# Altium schematic symbol library USER_Lib.SchLib: 110 symbols
Pins are listed as number, name and electrical type; pins without a type are passive.

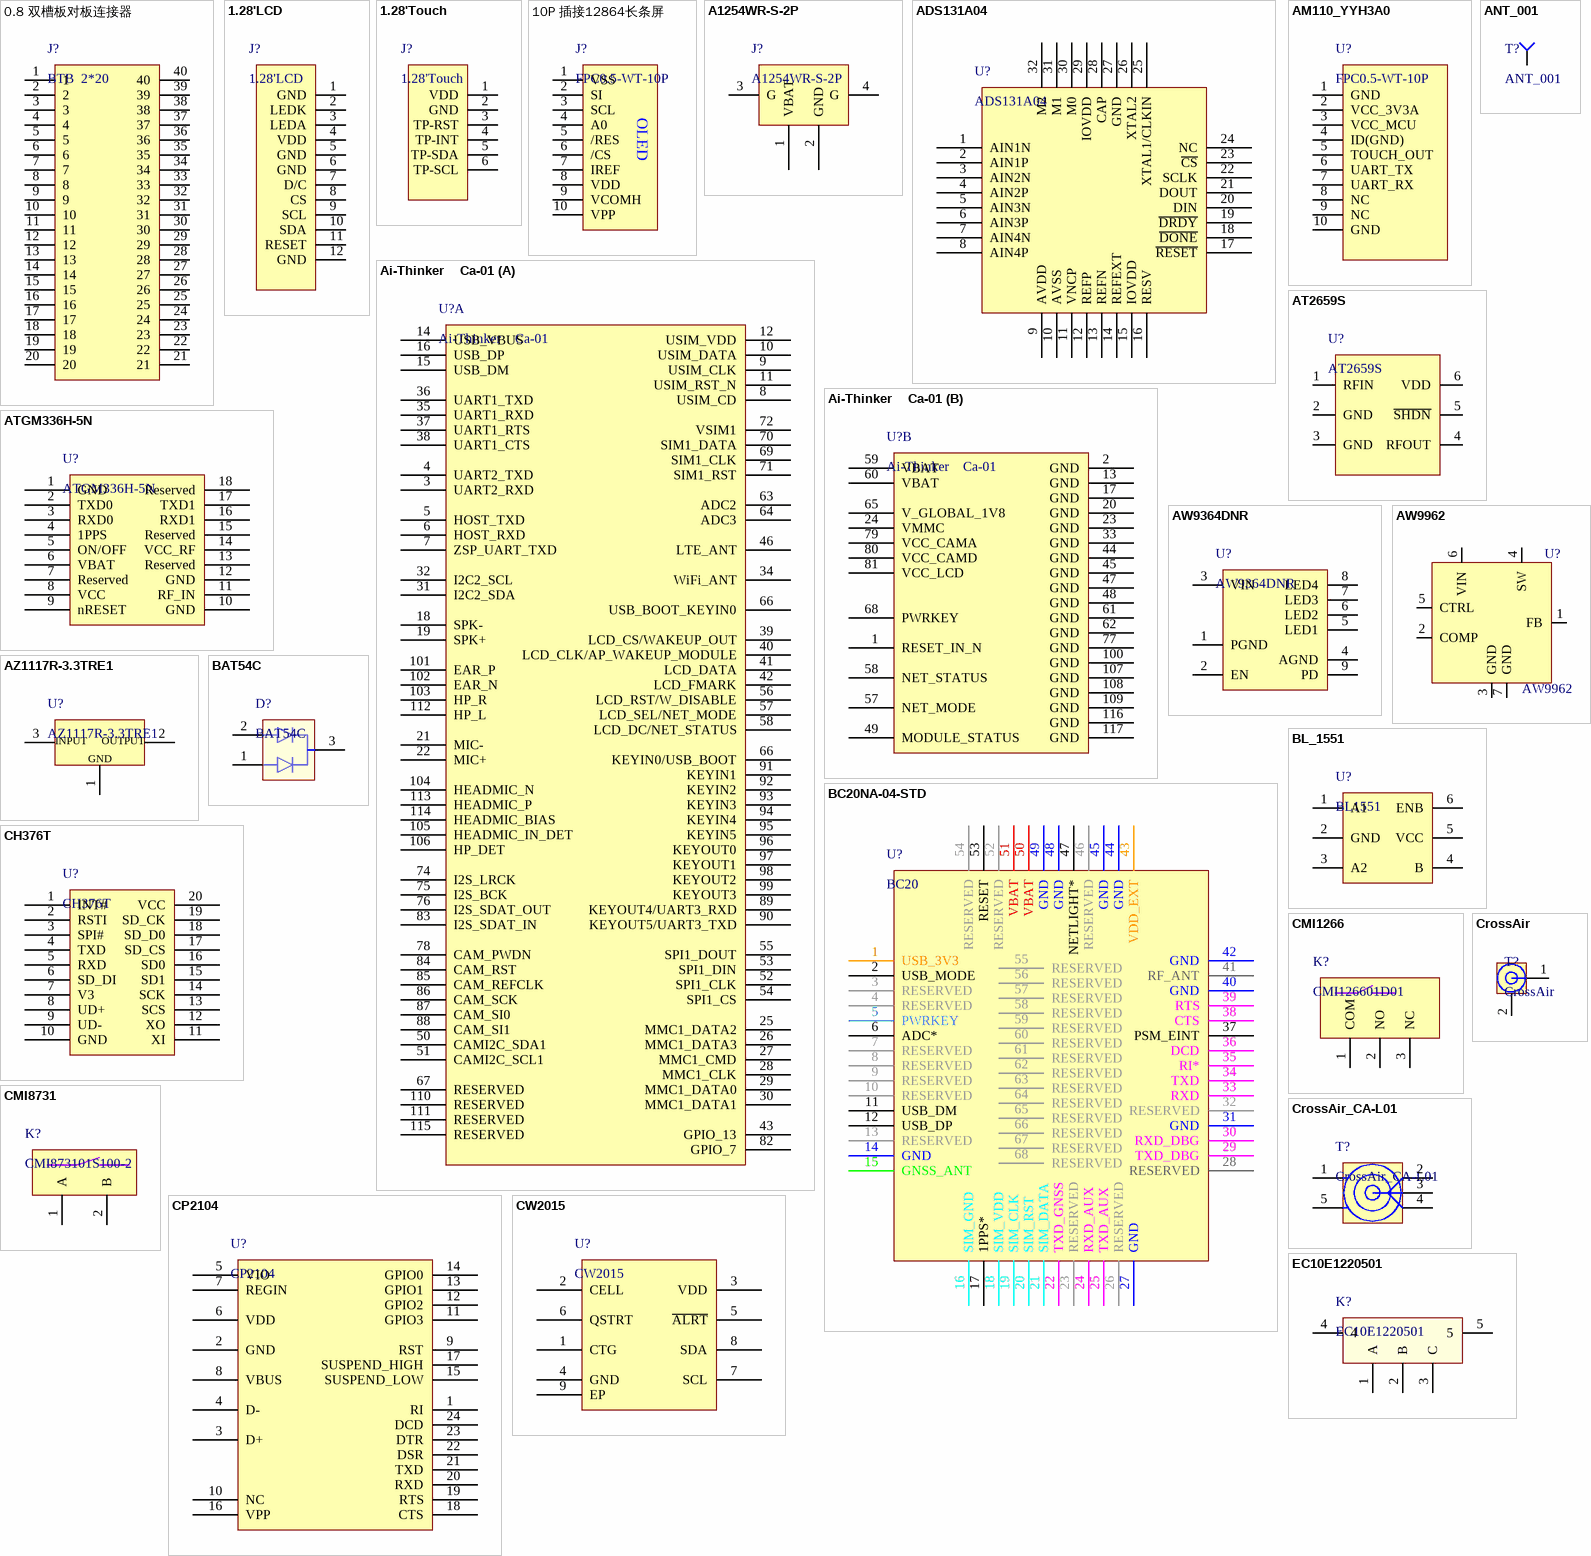
[diagram p0: symbols 0.8 双槽板对板连接器 to EC10E1220501]

## 0.8 双槽板对板连接器
designator J?, comment BTB  2*20
footprint SGDBF-08-40P-Hxx
footprint SGDBM-08-40P-Hxx
pins: 1, 2, 3, 4, 5, 6, 7, 8, 9, 10, 11, 12, 13, 14, 15, 16, 17, 18, 19, 20, 21, 22, 23, 24, 25, 26, 27, 28, 29, 30, 31, 32, 33, 34, 35, 36, 37, 38, 39, 40

## 1.28'LCD
designator J?
1.28寸焊接LCD屏（240*240）
footprint 1.28‘LCD
pins: 1 GND, 2 LEDK, 3 LEDA, 4 VDD, 5 GND, 6 GND, 7 D/C, 8 CS, 9 SCL, 10 SDA, 11 RESET, 12 GND

## 1.28'Touch
designator J?
1.28寸触摸面板
footprint 1.28’Touch
pins: 1 VDD, 2 GND, 3 TP-RST, 4 TP-INT, 5 TP-SDA, 6 TP-SCL

## 10P 插接12864长条屏
designator J?, comment FPC0.5-WT-10P
OLED屏幕
footprint FPC0.5-WT-10P (长：9.2mm，宽：5.2mm，高：2mm 淘宝ID:黄晶宝石   店铺网址:https://shop463601444.taobao.com)
pins: 1 VSS, 2 SI, 3 SCL, 4 A0, 5 /RES, 6 /CS, 7 IREF, 8 VDD, 9 VCOMH, 10 VPP
text: OLED

## A1254WR-S-2P
designator J?
长江连接器-卧式-2P
footprint A1254WR-S-2P (长江连接器-卧式)
pins: 1 VBAT, 2 GND, 3 G, 4 G

## ADS131A04
designator U?
24位ADC
footprint TQFP32 5x5_L (32脚，体宽：5x5mm, 脚距：0.5mm          淘宝ID:黄晶宝石)
footprint TQFP32 5x5_N (32脚，体宽：5x5mm, 脚距：0.5mm)
footprint TQFP32 5x5_M (32脚，体宽：5x5mm, 脚距：0.5mm             淘宝ID:黄晶宝石)
pins: 1 AIN1N, 2 AIN1P, 3 AIN2N, 4 AIN2P, 5 AIN3N, 6 AIN3P, 7 AIN4N, 8 AIN4P, 9 AVDD, 10 AVSS, 11 VNCP, 12 REFP, 13 REFN, 14 REFEXT, 15 IOVDD, 16 RESV, 17 ~{RESET}, 18 ~{DONE}, 19 ~{DRDY}, 20 DIN, 21 DOUT, 22 SCLK, 23 ~{CS}, 24 NC, 25 XTAL1/CLKIN, 26 XTAL2, 27 GND, 28 CAP, 29 IOVDD, 30 M0, 31 M1, 32 M2

## Ai-Thinker    Ca-01
designator U?
安信可 Ca-01
footprint Ai-Thinker    Ca-01 (安信可4G物联网模块)
part A pins: 3 UART2_RXD, 4 UART2_TXD, 5 HOST_TXD, 6 HOST_RXD, 7 ZSP_UART_TXD, 8 USIM_CD, 9 USIM_CLK, 10 USIM_DATA, 11 USIM_RST_N, 12 USIM_VDD, 14 USB_VBUS, 15 USB_DM, 16 USB_DP, 18 SPK-, 19 SPK+, 21 MIC-, 22 MIC+, 25 MMC1_DATA2, 26 MMC1_DATA3, 27 MMC1_CMD, 28 MMC1_CLK, 29 MMC1_DATA0, 30 MMC1_DATA1, 31 I2C2_SDA, 32 I2C2_SCL, 34 WiFi_ANT, 35 UART1_RXD, 36 UART1_TXD, 37 UART1_RTS, 38 UART1_CTS, 39 LCD_CS/WAKEUP_OUT, 40 LCD_CLK/AP_WAKEUP_MODULE, 41 LCD_DATA, 42 LCD_FMARK, 43 GPIO_13, 46 LTE_ANT, 50 CAMI2C_SDA1, 51 CAMI2C_SCL1, 52 SPI1_CLK, 53 SPI1_DIN, 54 SPI1_CS, 55 SPI1_DOUT, 56 LCD_RST/W_DISABLE, 57 LCD_SEL/NET_MODE, 58 LCD_DC/NET_STATUS, 63 ADC2, 64 ADC3, 66 USB_BOOT_KEYIN0, 66 KEYIN0/USB_BOOT, 67 RESERVED, 69 SIM1_CLK, 70 SIM1_DATA, 71 SIM1_RST, 72 VSIM1, 74 I2S_LRCK, 75 I2S_BCK, 76 I2S_SDAT_OUT, 78 CAM_PWDN, 82 GPIO_7, 83 I2S_SDAT_IN, 84 CAM_RST, 85 CAM_REFCLK, 86 CAM_SCK, 87 CAM_SI0, 88 CAM_SI1, 89 KEYOUT4/UART3_RXD, 90 KEYOUT5/UART3_TXD, 91 KEYIN1, 92 KEYIN2, 93 KEYIN3, 94 KEYIN4, 95 KEYIN5, 96 KEYOUT0, 97 KEYOUT1, 98 KEYOUT2, 99 KEYOUT3, 101 EAR_P, 102 EAR_N, 103 HP_R, 104 HEADMIC_N, 105 HEADMIC_IN_DET, 106 HP_DET, 110 RESERVED, 111 RESERVED, 112 HP_L, 113 HEADMIC_P, 114 HEADMIC_BIAS, 115 RESERVED
part B pins: 1 RESET_IN_N, 2 GND, 13 GND, 17 GND, 20 GND, 23 GND, 24 VMMC, 33 GND, 44 GND, 45 GND, 47 GND, 48 GND, 49 MODULE_STATUS, 57 NET_MODE, 58 NET_STATUS, 59 VBAT, 60 VBAT, 61 GND, 62 GND, 65 V_GLOBAL_1V8, 68 PWRKEY, 77 GND, 79 VCC_CAMA, 80 VCC_CAMD, 81 VCC_LCD, 100 GND, 107 GND, 108 GND, 109 GND, 116 GND, 117 GND

## AM110_YYH3A0
designator U?, comment FPC0.5-WT-10P
晟元AM110_YYH3A0指纹模组
footprint FPC0.5-WT-10P (长：9.2mm，宽：5.2mm，高：2mm 淘宝ID:黄晶宝石   店铺网址:https://shop463601444.taobao.com)
pins: 1 GND, 2 VCC_3V3A, 3 VCC_MCU, 4 ID(GND), 5 TOUCH_OUT, 6 UART_TX, 7 UART_RX, 8 NC, 9 NC, 10 GND

## ANT_001
designator T?
天线焊接点
footprint ANT_001
pins: 1

## AT2659S
designator U?
footprint SOT23-6L (3x1.6x1.1mm(长宽高))
pins: 1 RFIN, 2 GND, 3 GND, 4 RFOUT, 5 ~{SHDN}, 6 VDD

## ATGM336H-5N
designator U?
中科微GPS模组
footprint ATGM336H-5N (GPS模块)
pins: 1 GND, 2 TXD0, 3 RXD0, 4 1PPS, 5 ON/OFF, 6 VBAT, 7 Reserved, 8 VCC, 9 nRESET, 10 GND, 11 RF_IN, 12 GND, 13 Reserved, 14 VCC_RF, 15 Reserved, 16 RXD1, 17 TXD1, 18 Reserved

## AW9364DNR
designator U?
并联调光背光驱动
footprint DFN2X2-8L
pins: 1 PGND, 2 EN, 3 VIN, 4 AGND, 5 LED1, 6 LED2, 7 LED3, 8 LED4, 9 PD

## AW9962
designator U?
调光的串联 WLED  驱动
footprint TDFN2x2-6_L
pins: 1 FB, 2 COMP, 3 GND, 4 SW, 5 CTRL, 6 VIN, 7 GND

## AZ1117R-3.3TRE1
designator U?
1A线性稳压器
footprint SOT-89
pins: 1 GND, 2 OUTPUT, 3 INPUT

## BAT54C
designator D?
共阴肖特基二极管
footprint SOT23-3L (SOT23, 3-Leads, Body 2.9x1.3mm, Pitch 0.95mm, Lead Span 2.4mm, IPC High Density)
pins: 1, 2, 3

## BC20NA-04-STD
designator U?, comment BC20
BC20NA-04-STD模组
footprint BC20
pins: 1 USB_3V3, 2 USB_MODE, 3 RESERVED, 4 RESERVED, 5 PWRKEY, 6 ADC*, 7 RESERVED, 8 RESERVED, 9 RESERVED, 10 RESERVED, 11 USB_DM, 12 USB_DP, 13 RESERVED, 14 GND, 15 GNSS_ANT, 16 SIM_GND, 17 1PPS*, 18 SIM_VDD, 19 SIM_CLK, 20 SIM_RST, 21 SIM_DATA, 22 TXD_GNSS, 23 RESERVED, 24 RXD_AUX, 25 TXD_AUX, 26 RESERVED, 27 GND, 28 RESERVED, 29 TXD_DBG, 30 RXD_DBG, 31 GND, 32 RESERVED, 33 RXD, 34 TXD, 35 RI*, 36 DCD, 37 PSM_EINT, 38 CTS, 39 RTS, 40 GND, 41 RF_ANT, 42 GND, 43 VDD_EXT, 44 GND, 45 GND, 46 RESERVED, 47 NETLIGHT*, 48 GND, 49 GND, 50 VBAT, 51 VBAT, 52 RESERVED, 53 RESET, 54 RESERVED, 55 RESERVED, 56 RESERVED, 57 RESERVED, 58 RESERVED, 59 RESERVED, 60 RESERVED, 61 RESERVED, 62 RESERVED, 63 RESERVED, 64 RESERVED, 65 RESERVED, 66 RESERVED, 67 RESERVED, 68 RESERVED

## BL_1551
designator U?, comment BL1551
二选一模拟开关
footprint SC-70-6 (SOT-363)
pins: 1 A1, 2 GND, 3 A2, 4 B, 5 VCC, 6 ENB

## CH376T
designator U?
U 盘和 SD 卡文件管理控制芯片
footprint SSOP20_L (7.2*7.8*1.6（长宽高）)
pins: 1 INT#, 2 RSTI, 3 SPI#, 4 TXD, 5 RXD, 6 SD_DI, 7 V3, 8 UD+, 9 UD-, 10 GND, 11 XI, 12 XO, 13 SCS, 14 SCK, 15 SD1, 16 SD0, 17 SD_CS, 18 SD_D0, 19 SD_CK, 20 VCC

## CMI1266
designator K?, comment CMI126601D01
小型微动开关
footprint CMI126601D01 (Kailh小型微动开关)
pins: 1 COM, 2 NO, 3 NC

## CMI8731
designator K?, comment CMI873101S100-2
MINI微型开关
footprint CMI873101S100-2
pins: 1 A, 2 B

## CP2104
designator U?
USB转TTl
footprint QFN24 4x4_N (24脚，长x宽x高：4x4x1mm，脚距：0.5mm)
pins: 1 RI, 2 GND, 3 D+, 4 D-, 5 VIO, 6 VDD, 7 REGIN, 8 VBUS, 9 RST, 10 NC, 11 GPIO3, 12 GPIO2, 13 GPIO1, 14 GPIO0, 15 SUSPEND_LOW, 16 VPP, 17 SUSPEND_HIGH, 18 CTS, 19 RTS, 20 RXD, 21 TXD, 22 DSR, 23 DTR, 24 DCD

## CrossAir
designator T?
天线
footprint CA-C03 (2.4G  ISM  BLE  WIFI  ZigBee  贴片天线)
footprint CA-G01 (GNSS贴片天线)
pins: 1, 2

## CrossAir_CA-L01
designator T?
天线
footprint CA-L01 (4G  3G  2G  全网通天线)
pins: 1, 2, 3, 4, 5

## CW2015
designator U?
电量计
footprint CW2015
pins: 1 CTG, 2 CELL, 3 VDD, 4 GND, 5 ~{ALRT}, 6 QSTRT, 7 SCL, 8 SDA, 9 EP

## EC10E1220501
designator K?
EC10E 编码器
footprint EC10E1220501
pins: 1 A, 2 B, 3 C, 4, 5

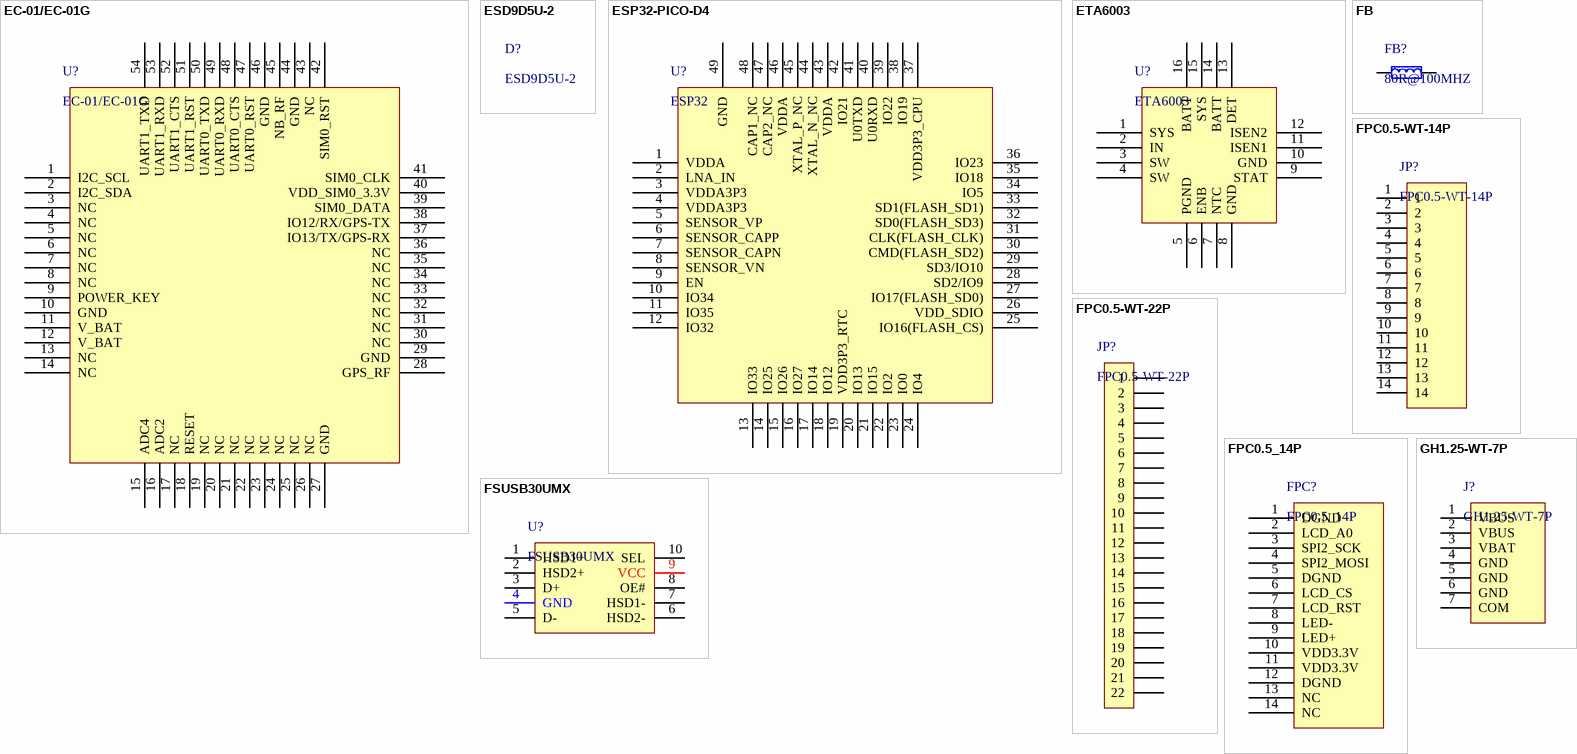
[diagram p1: symbols EC-01/EC-01G to GH1.25-WT-7P]

## EC-01/EC-01G
designator U?
安信可EC-01/EC-01G
footprint EC-01G (安信可EC-01G 模组)
pins: 1 I2C_SCL, 2 I2C_SDA, 3 NC, 4 NC, 5 NC, 6 NC, 7 NC, 8 NC, 9 POWER_KEY, 10 GND, 11 V_BAT, 12 V_BAT, 13 NC, 14 NC, 15 ADC4, 16 ADC2, 17 NC, 18 RESET, 19 NC, 20 NC, 21 NC, 22 NC, 23 NC, 24 NC, 25 NC, 26 NC, 27 GND, 28 GPS_RF, 29 GND, 30 NC, 31 NC, 32 NC, 33 NC, 34 NC, 35 NC, 36 NC, 37 IO13/TX/GPS-RX, 38 IO12/RX/GPS-TX, 39 SIM0_DATA, 40 VDD_SIM0_3.3V, 41 SIM0_CLK, 42 SIM0_RST, 43 NC, 44 GND, 45 NB_RF, 46 GND, 47 UART0_RST, 48 UART0_CTS, 49 UART0_RXD, 50 UART0_TXD, 51 UART1_RST, 52 UART1_CTS, 53 UART1_RXD, 54 UART1_TXD

## ESD9D5U-2
designator D?
TVS静电保护二极管
footprint SOD-923 (0.8x0.6X0.4mm（长宽高，不包括引脚）       淘宝ID:黄晶宝石)

## ESP32-PICO-D4
designator U?, comment ESP32
ESP32-PICO-D4
footprint QFN48 7X7_L (48脚，长x宽x高：7x7x1mm，脚距：0.5mm)
pins: 1 VDDA, 2 LNA_IN, 3 VDDA3P3, 4 VDDA3P3, 5 SENSOR_VP, 6 SENSOR_CAPP, 7 SENSOR_CAPN, 8 SENSOR_VN, 9 EN, 10 IO34, 11 IO35, 12 IO32, 13 IO33, 14 IO25, 15 IO26, 16 IO27, 17 IO14, 18 IO12, 19 VDD3P3_RTC, 20 IO13, 21 IO15, 22 IO2, 23 IO0, 24 IO4, 25 IO16(FLASH_CS), 26 VDD_SDIO, 27 IO17(FLASH_SD0), 28 SD2/IO9, 29 SD3/IO10, 30 CMD(FLASH_SD2), 31 CLK(FLASH_CLK), 32 SD0(FLASH_SD3), 33 SD1(FLASH_SD1), 34 IO5, 35 IO18, 36 IO23, 37 VDD3P3_CPU, 38 IO19, 39 IO22, 40 U0RXD, 41 U0TXD, 42 IO21, 43 VDDA, 44 XTAL_N_NC, 45 XTAL_P_NC, 46 VDDA, 47 CAP2_NC, 48 CAP1_NC, 49 GND

## ETA6003
designator U?
footprint QFN16-3x3
pins: 1 SYS, 2 IN, 3 SW, 4 SW, 5 PGND, 6 ENB, 7 NTC, 8 GND, 9 STAT, 10 GND, 11 ISEN1, 12 ISEN2, 13 DET, 14 BATT, 15 SYS, 16 BATT

## FB
designator FB?, comment 80R@100MHZ
磁珠
pins: 1, 2

## FPC0.5-WT-14P
designator JP?
0.5mm间距、14P FPC
footprint FPC0.5-WT-14P (长：11.2mm，宽：5.2mm，高：2mm)
pins: 1, 2, 3, 4, 5, 6, 7, 8, 9, 10, 11, 12, 13, 14

## FPC0.5-WT-22P
designator JP?
footprint FPC0.5-WT-22P (长：15.2mm，宽：5.2mm，高：2mm 淘宝ID:黄晶宝石   店铺网址:https://shop463601444.taobao.com)
pins: 1, 2, 3, 4, 5, 6, 7, 8, 9, 10, 11, 12, 13, 14, 15, 16, 17, 18, 19, 20, 21, 22

## FPC0.5_14P
designator FPC?
footprint FPC0.5-WT-14P (长：11.2mm，宽：5.2mm，高：2mm)
pins: 1 DGND, 2 LCD_A0, 3 SPI2_SCK, 4 SPI2_MOSI, 5 DGND, 6 LCD_CS, 7 LCD_RST, 8 LED-, 9 LED+, 10 VDD3.3V, 11 VDD3.3V, 12 DGND, 13 NC, 14 NC

## FSUSB30UMX
designator U?
安森美USB2.0切换芯片
footprint ULMP-10
pins: 1 HSD1+, 2 HSD2+, 3 D+, 4 GND, 5 D-, 6 HSD2-, 7 HSD1-, 8 OE#, 9 VCC, 10 SEL

## GH1.25-WT-7P
designator J?
带锁扣接口座
footprint A1254WF-07A
pins: 1 VBUS, 2 VBUS, 3 VBAT, 4 GND, 5 GND, 6 GND, 7 COM

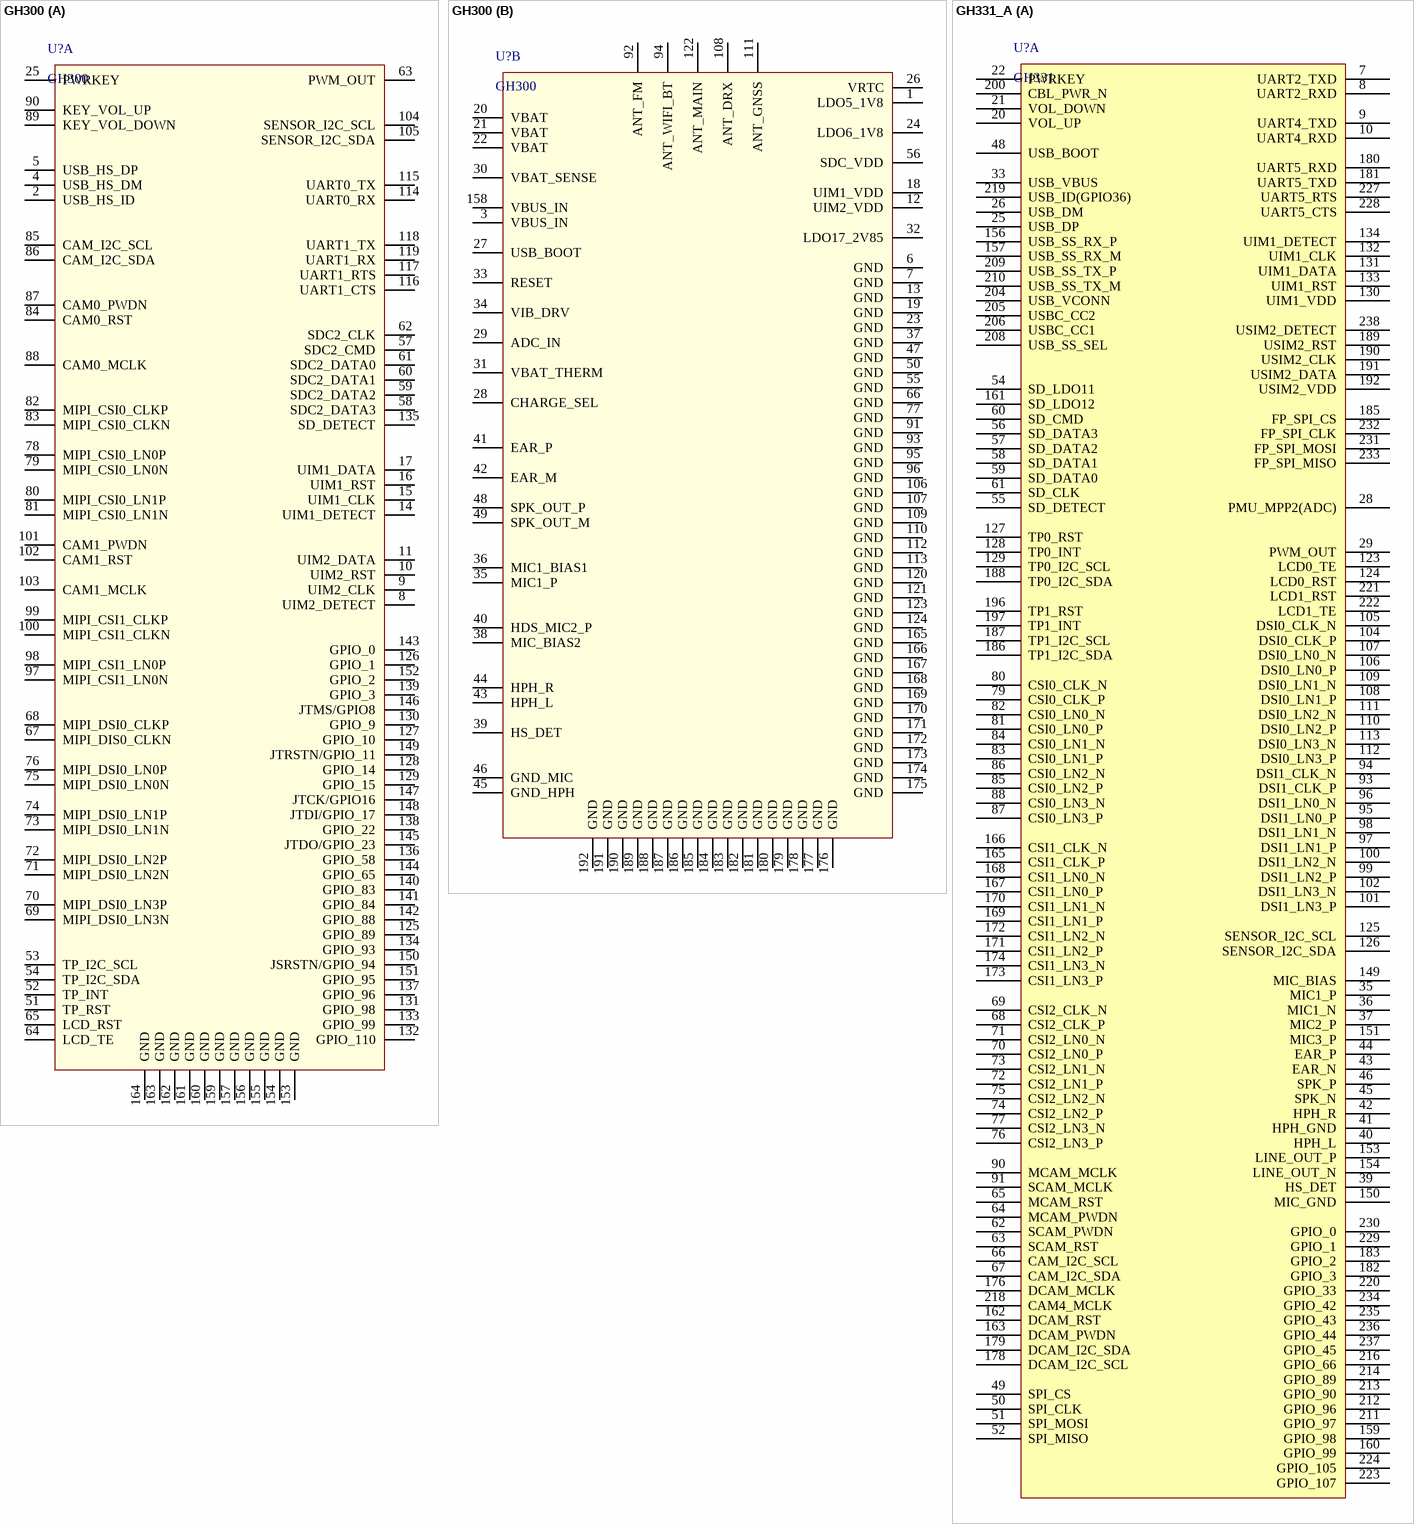
[diagram p2: symbols GH300 to GH331_A]

## GH300
designator U?
8909模组
footprint GH300
part A pins: 2 USB_HS_ID, 4 USB_HS_DM, 5 USB_HS_DP, 8 UIM2_DETECT, 9 UIM2_CLK, 10 UIM2_RST, 11 UIM2_DATA, 14 UIM1_DETECT, 15 UIM1_CLK, 16 UIM1_RST, 17 UIM1_DATA, 25 PWRKEY, 51 TP_RST, 52 TP_INT, 53 TP_I2C_SCL, 54 TP_I2C_SDA, 57 SDC2_CMD, 58 SDC2_DATA3, 59 SDC2_DATA2, 60 SDC2_DATA1, 61 SDC2_DATA0, 62 SDC2_CLK, 63 PWM_OUT, 64 LCD_TE, 65 LCD_RST, 67 MIPI_DIS0_CLKN, 68 MIPI_DSI0_CLKP, 69 MIPI_DSI0_LN3N, 70 MIPI_DSI0_LN3P, 71 MIPI_DSI0_LN2N, 72 MIPI_DSI0_LN2P, 73 MIPI_DSI0_LN1N, 74 MIPI_DSI0_LN1P, 75 MIPI_DSI0_LN0N, 76 MIPI_DSI0_LN0P, 78 MIPI_CSI0_LN0P, 79 MIPI_CSI0_LN0N, 80 MIPI_CSI0_LN1P, 81 MIPI_CSI0_LN1N, 82 MIPI_CSI0_CLKP, 83 MIPI_CSI0_CLKN, 84 CAM0_RST, 85 CAM_I2C_SCL, 86 CAM_I2C_SDA, 87 CAM0_PWDN, 88 CAM0_MCLK, 89 KEY_VOL_DOWN, 90 KEY_VOL_UP, 97 MIPI_CSI1_LN0N, 98 MIPI_CSI1_LN0P, 99 MIPI_CSI1_CLKP, 100 MIPI_CSI1_CLKN, 101 CAM1_PWDN, 102 CAM1_RST, 103 CAM1_MCLK, 104 SENSOR_I2C_SCL, 105 SENSOR_I2C_SDA, 114 UART0_RX, 115 UART0_TX, 116 UART1_CTS, 117 UART1_RTS, 118 UART1_TX, 119 UART1_RX, 125 GPIO_89, 126 GPIO_1, 127 GPIO_10, 128 GPIO_14, 129 GPIO_15, 130 GPIO_9, 131 GPIO_98, 132 GPIO_110, 133 GPIO_99, 134 GPIO_93, 135 SD_DETECT, 136 GPIO_58, 137 GPIO_96, 138 GPIO_22, 139 GPIO_3, 140 GPIO_83, 141 GPIO_84, 142 GPIO_88, 143 GPIO_0, 144 GPIO_65, 145 JTDO/GPIO_23, 146 JTMS/GPIO8, 147 JTCK/GPIO16, 148 JTDI/GPIO_17, 149 JTRSTN/GPIO_11, 150 JSRSTN/GPIO_94, 151 GPIO_95, 152 GPIO_2, 153 GND, 154 GND, 155 GND, 156 GND, 157 GND, 159 GND, 160 GND, 161 GND, 162 GND, 163 GND, 164 GND
part B pins: 1 LDO5_1V8, 3 VBUS_IN, 6 GND, 7 GND, 12 UIM2_VDD, 13 GND, 18 UIM1_VDD, 19 GND, 20 VBAT, 21 VBAT, 22 VBAT, 23 GND, 24 LDO6_1V8, 26 VRTC, 27 USB_BOOT, 28 CHARGE_SEL, 29 ADC_IN, 30 VBAT_SENSE, 31 VBAT_THERM, 32 LDO17_2V85, 33 RESET, 34 VIB_DRV, 35 MIC1_P, 36 MIC1_BIAS1, 37 GND, 38 MIC_BIAS2, 39 HS_DET, 40 HDS_MIC2_P, 41 EAR_P, 42 EAR_M, 43 HPH_L, 44 HPH_R, 45 GND_HPH, 46 GND_MIC, 47 GND, 48 SPK_OUT_P, 49 SPK_OUT_M, 50 GND, 55 GND, 56 SDC_VDD, 66 GND, 77 GND, 91 GND, 92 ANT_FM, 93 GND, 94 ANT_WIFI_BT, 95 GND, 96 GND, 106 GND, 107 GND, 108 ANT_DRX, 109 GND, 110 GND, 111 ANT_GNSS, 112 GND, 113 GND, 120 GND, 121 GND, 122 ANT_MAIN, 123 GND, 124 GND, 158 VBUS_IN, 165 GND, 166 GND, 167 GND, 168 GND, 169 GND, 170 GND, 171 GND, 172 GND, 173 GND, 174 GND, 175 GND, 176 GND, 177 GND, 178 GND, 179 GND, 180 GND, 181 GND, 182 GND, 183 GND, 184 GND, 185 GND, 186 GND, 187 GND, 188 GND, 189 GND, 190 GND, 191 GND, 192 GND

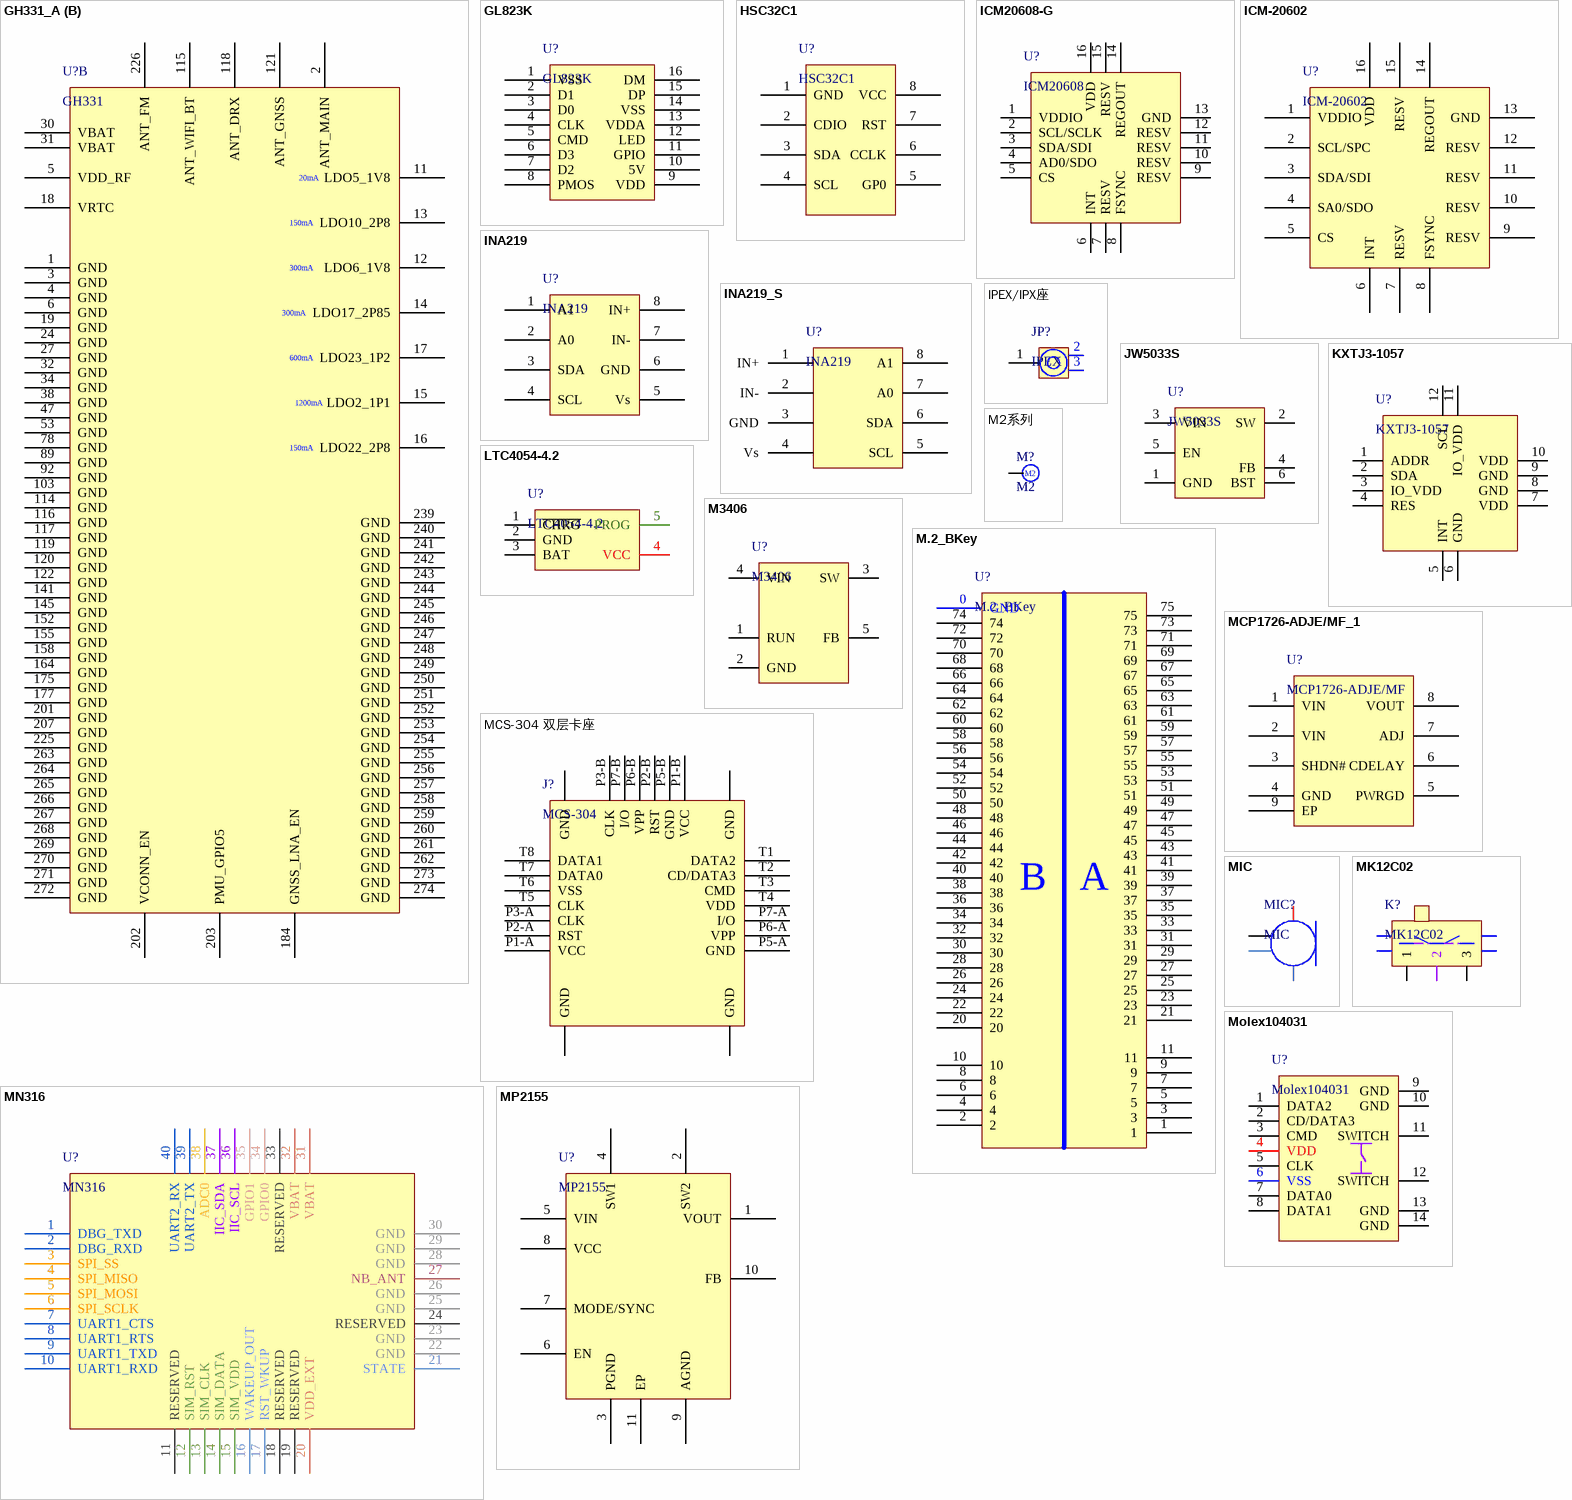
[diagram p3: symbols GH331_A to MP2155]

## GH331_A
designator U?, comment GH331
450模组
footprint GH331_A
part A pins: 7 UART2_TXD, 8 UART2_RXD, 9 UART4_TXD, 10 UART4_RXD, 20 VOL_UP, 21 VOL_DOWN, 22 PWRKEY, 25 USB_DP, 26 USB_DM, 28 PMU_MPP2(ADC), 29 PWM_OUT, 33 USB_VBUS, 35 MIC1_P, 36 MIC1_N, 37 MIC2_P, 39 HS_DET, 40 HPH_L, 41 HPH_GND, 42 HPH_R, 43 EAR_N, 44 EAR_P, 45 SPK_N, 46 SPK_P, 48 USB_BOOT, 49 SPI_CS, 50 SPI_CLK, 51 SPI_MOSI, 52 SPI_MISO, 54 SD_LDO11, 55 SD_DETECT, 56 SD_DATA3, 57 SD_DATA2, 58 SD_DATA1, 59 SD_DATA0, 60 SD_CMD, 61 SD_CLK, 62 SCAM_PWDN, 63 SCAM_RST, 64 MCAM_PWDN, 65 MCAM_RST, 66 CAM_I2C_SCL, 67 CAM_I2C_SDA, 68 CSI2_CLK_P, 69 CSI2_CLK_N, 70 CSI2_LN0_P, 71 CSI2_LN0_N, 72 CSI2_LN1_P, 73 CSI2_LN1_N, 74 CSI2_LN2_P, 75 CSI2_LN2_N, 76 CSI2_LN3_P, 77 CSI2_LN3_N, 79 CSI0_CLK_P, 80 CSI0_CLK_N, 81 CSI0_LN0_P, 82 CSI0_LN0_N, 83 CSI0_LN1_P, 84 CSI0_LN1_N, 85 CSI0_LN2_P, 86 CSI0_LN2_N, 87 CSI0_LN3_P, 88 CSI0_LN3_N, 90 MCAM_MCLK, 91 SCAM_MCLK, 93 DSI1_CLK_P, 94 DSI1_CLK_N, 95 DSI1_LN0_P, 96 DSI1_LN0_N, 97 DSI1_LN1_P, 98 DSI1_LN1_N, 99 DSI1_LN2_P, 100 DSI1_LN2_N, 101 DSI1_LN3_P, 102 DSI1_LN3_N, 104 DSI0_CLK_P, 105 DSI0_CLK_N, 106 DSI0_LN0_P, 107 DSI0_LN0_N, 108 DSI0_LN1_P, 109 DSI0_LN1_N, 110 DSI0_LN2_P, 111 DSI0_LN2_N, 112 DSI0_LN3_P, 113 DSI0_LN3_N, 123 LCD0_TE, 124 LCD0_RST, 125 SENSOR_I2C_SCL, 126 SENSOR_I2C_SDA, 127 TP0_RST, 128 TP0_INT, 129 TP0_I2C_SCL, 130 UIM1_VDD, 131 UIM1_DATA, 132 UIM1_CLK, 133 UIM1_RST, 134 UIM1_DETECT, 149 MIC_BIAS, 150 MIC_GND, 151 MIC3_P, 153 LINE_OUT_P, 154 LINE_OUT_N, 156 USB_SS_RX_P, 157 USB_SS_RX_M, 159 GPIO_98, 160 GPIO_99, 161 SD_LDO12, 162 DCAM_RST, 163 DCAM_PWDN, 165 CSI1_CLK_P, 166 CSI1_CLK_N, 167 CSI1_LN0_P, 168 CSI1_LN0_N, 169 CSI1_LN1_P, 170 CSI1_LN1_N, 171 CSI1_LN2_P, 172 CSI1_LN2_N, 173 CSI1_LN3_P, 174 CSI1_LN3_N, 176 DCAM_MCLK, 178 DCAM_I2C_SCL, 179 DCAM_I2C_SDA, 180 UART5_RXD, 181 UART5_TXD, 182 GPIO_3, 183 GPIO_2, 185 FP_SPI_CS, 186 TP1_I2C_SDA, 187 TP1_I2C_SCL, 188 TP0_I2C_SDA, 189 USIM2_RST, 190 USIM2_CLK, 191 USIM2_DATA, 192 USIM2_VDD, 196 TP1_RST, 197 TP1_INT, 200 CBL_PWR_N, 204 USB_VCONN, 205 USBC_CC2, 206 USBC_CC1, 208 USB_SS_SEL, 209 USB_SS_TX_P, 210 USB_SS_TX_M, 211 GPIO_97, 212 GPIO_96, 213 GPIO_90, 214 GPIO_89, 216 GPIO_66, 218 CAM4_MCLK, 219 USB_ID(GPIO36), 220 GPIO_33, 221 LCD1_RST, 222 LCD1_TE, 223 GPIO_107, 224 GPIO_105, 227 UART5_RTS, 228 UART5_CTS, 229 GPIO_1, 230 GPIO_0, 231 FP_SPI_MOSI, 232 FP_SPI_CLK, 233 FP_SPI_MISO, 234 GPIO_42, 235 GPIO_43, 236 GPIO_44, 237 GPIO_45, 238 USIM2_DETECT
part B pins: 1 GND, 2 ANT_MAIN, 3 GND, 4 GND, 5 VDD_RF, 6 GND, 11 LDO5_1V8, 12 LDO6_1V8, 13 LDO10_2P8, 14 LDO17_2P85, 15 LDO2_1P1, 16 LDO22_2P8, 17 LDO23_1P2, 18 VRTC, 19 GND, 24 GND, 27 GND, 30 VBAT, 31 VBAT, 32 GND, 34 GND, 38 GND, 47 GND, 53 GND, 78 GND, 89 GND, 92 GND, 103 GND, 114 GND, 115 ANT_WIFI_BT, 116 GND, 117 GND, 118 ANT_DRX, 119 GND, 120 GND, 121 ANT_GNSS, 122 GND, 141 GND, 145 GND, 152 GND, 155 GND, 158 GND, 164 GND, 175 GND, 177 GND, 184 GNSS_LNA_EN, 201 GND, 202 VCONN_EN, 203 PMU_GPIO5, 207 GND, 225 GND, 226 ANT_FM, 239 GND, 240 GND, 241 GND, 242 GND, 243 GND, 244 GND, 245 GND, 246 GND, 247 GND, 248 GND, 249 GND, 250 GND, 251 GND, 252 GND, 253 GND, 254 GND, 255 GND, 256 GND, 257 GND, 258 GND, 259 GND, 260 GND, 261 GND, 262 GND, 263 GND, 264 GND, 265 GND, 266 GND, 267 GND, 268 GND, 269 GND, 270 GND, 271 GND, 272 GND, 273 GND, 274 GND
part B text: 20mA; 150mA; 300mA; 600mA; 1200mA

## GL823K
designator U?
TF卡转USB
footprint SSOP-16
pins: 1 VSS, 2 D1, 3 D0, 4 CLK, 5 CMD, 6 D3, 7 D2, 8 PMOS, 9 VDD, 10 5V, 11 GPIO, 12 LED, 13 VDDA, 14 VSS, 15 DP, 16 DM

## HSC32C1
designator U?
国密加密芯片
footprint DFN-8 (MCP1726_DFN-8)
pins: 1 GND, 2 CDIO, 3 SDA, 4 SCL, 5 GP0, 6 CCLK, 7 RST, 8 VCC

## ICM20608-G
designator U?, comment ICM20608
六轴姿态传感器
footprint LGA16     3*3*0.75
pins: 1 VDDIO, 2 SCL/SCLK, 3 SDA/SDI, 4 AD0/SDO, 5 CS, 6 INT, 7 RESV, 8 FSYNC, 9 RESV, 10 RESV, 11 RESV, 12 RESV, 13 GND, 14 REGOUT, 15 RESV, 16 VDD

## ICM-20602
designator U?
六轴姿态传感器
footprint LGA-16 (ICM20602)
pins: 1 VDDIO, 2 SCL/SPC, 3 SDA/SDI, 4 SA0/SDO, 5 CS, 6 INT, 7 RESV, 8 FSYNC, 9 RESV, 10 RESV, 11 RESV, 12 RESV, 13 GND, 14 REGOUT, 15 RESV, 16 VDD

## INA219
designator U?
INA219功率计,SOIC-8
footprint SOIC-8 (封装库来自淘宝卖家 ID：黄晶宝石)
pins: 1 A1, 2 A0, 3 SDA, 4 SCL, 5 Vs, 6 GND, 7 IN-, 8 IN+

## INA219_S
designator U?, comment INA219
SOT-23_8,功率计INA219
footprint SOT23-8 (SOT23, 8-Leads, Body 2.9x1.75mm, Pitch 0.65mm)
footprint SOT23-8L (SOT23, 8-Leads, Body 2.9x1.75mm, Pitch 0.65mm)
pins: 1 IN+, 2 IN-, 3 GND, 4 Vs, 5 SCL, 6 SDA, 7 A0, 8 A1

## IPEX/IPX座
designator JP?, comment IPEX
SMT 2.4G天线座
footprint COAXIAL/SMD/CON/V/I-PEX/W08-5801 (https://shop463601444.taobao.com)
pins: 1, 2, 3

## JW5033S
designator U?
降压型DC-DC,输入3.7~18V，输出2A
footprint TSOT23-6
pins: 1 GND, 2 SW, 3 VIN, 4 FB, 5 EN, 6 BST

## KXTJ3-1057
designator U?
三轴加速度
footprint LGA-12 (KXTJ-1057)
pins: 1 ADDR, 2 SDA, 3 IO_VDD, 4 RES, 5 INT, 6 GND, 7 VDD, 8 GND, 9 GND, 10 VDD, 11 IO_VDD, 12 SCL

## LTC4054-4.2
designator U?
锂电池充电IC
footprint SOT23-5L (SOT23, 5-Leads, Body 2.9x1.6mm, Pitch 0.95mm, IPC High Density)
pins: 1 ~{CHRG}, 2 GND, 3 BAT, 4 VCC, 5 PROG

## M2系列
designator M?, comment M2
M2孔支撑柱
footprint M2焊盘
footprint M2*4.5*2.5*0.8*3.3 (SMT螺母)
pins: 1

## M3406
designator U?
1.5MHz/600mA降压型DC-DC
footprint SOT23-5L (SOT23, 5-Leads, Body 2.9x1.6mm, Pitch 0.95mm, IPC High Density)
footprint SOT23-5M (SOT23, 5-Leads, Body 2.9x1.6mm, Pitch 0.95mm, IPC Low Density)
footprint SOT23-5N (SOT23, 5-Leads, Body 2.9x1.6mm, Pitch 0.95mm, IPC Medium Density)
pins: 1 RUN, 2 GND, 3 SW, 4 VIN, 5 FB

## M.2_BKey
designator U?
footprint M.2_BKey
pins: 0 GND, 1, 2, 3, 4, 5, 6, 7, 8, 9, 10, 11, 20, 21, 22, 23, 24, 25, 26, 27, 28, 29, 30, 31, 32, 33, 34, 35, 36, 37, 38, 39, 40, 41, 42, 43, 44, 45, 46, 47, 48, 49, 50, 51, 52, 53, 54, 55, 56, 57, 58, 59, 60, 61, 62, 63, 64, 65, 66, 67, 68, 69, 70, 71, 72, 73, 74, 75
text: B; A

## MCP1726-ADJE/MF_1
designator U?, comment MCP1726-ADJE/MF
电源芯片
footprint DFN-8
pins: 1 VIN, 2 VIN, 3 SHDN#, 4 GND, 5 PWRGD, 6 CDELAY, 7 ADJ, 8 VOUT, 9 EP

## MCS-304 双层卡座
designator J?, comment MCS-304
双层卡座
footprint MCS-304 (双层卡座)
pins: P1-A VCC, P1-B VCC, P2-A RST, P2-B RST, P3-A CLK, P3-B CLK, P5-A GND, P5-B GND, P6-A VPP, P6-B VPP, P7-A I/O, P7-B I/O, PAD GND, PAD GND, PAD GND, PAD GND, T1 DATA2, T2 CD/DATA3, T3 CMD, T4 VDD, T5 CLK, T6 VSS, T7 DATA0, T8 DATA1

## MIC
designator MIC?
上进音模拟MIC
footprint MIC (上进音模拟麦克风)
pins: 1 Power, 2 GND, 3 GND, 4 Output

## MK12C02
designator K?
7P-12608微型拨动开关
footprint 7P-12608微动开关
pins: 0, 0, 0, 0, 1, 2, 3

## MN316
designator U?
中移NB-IOT
footprint MN316-LITE (去除没有用到的引脚)
pins: 1 DBG_TXD, 2 DBG_RXD, 3 SPI_SS, 4 SPI_MISO, 5 SPI_MOSI, 6 SPI_SCLK, 7 UART1_CTS, 8 UART1_RTS, 9 UART1_TXD, 10 UART1_RXD, 11 RESERVED, 12 SIM_RST, 13 SIM_CLK, 14 SIM_DATA, 15 SIM_VDD, 16 WAKEUP_OUT, 17 RST_WKUP, 18 RESERVED, 19 RESERVED, 20 VDD_EXT, 21 STATE, 22 GND, 23 GND, 24 RESERVED, 25 GND, 26 GND, 27 NB_ANT, 28 GND, 29 GND, 30 GND, 31 VBAT, 32 VBAT, 33 RESERVED, 34 GPIO0, 35 GPIO1, 36 IIC_SCL, 37 IIC_SDA, 38 ADC0, 39 UART2_TX, 40 UART2_RX

## Molex104031
designator U?
拔插式超薄TF卡座
footprint 插拔式MicroSD卡
pins: 1 DATA2, 2 CD/DATA3, 3 CMD, 4 VDD, 5 CLK, 6 VSS, 7 DATA0, 8 DATA1, 9 GND, 10 GND, 11 SWITCH, 12 SWITCH, 13 GND, 14 GND

## MP2155
designator U?
高效、低静态电流的Buck-Boost变换器
footprint DFN3x3-10
pins: 1 VOUT, 2 SW2, 3 PGND, 4 SW1, 5 VIN, 6 EN, 7 MODE/SYNC, 8 VCC, 9 AGND, 10 FB, 11 EP

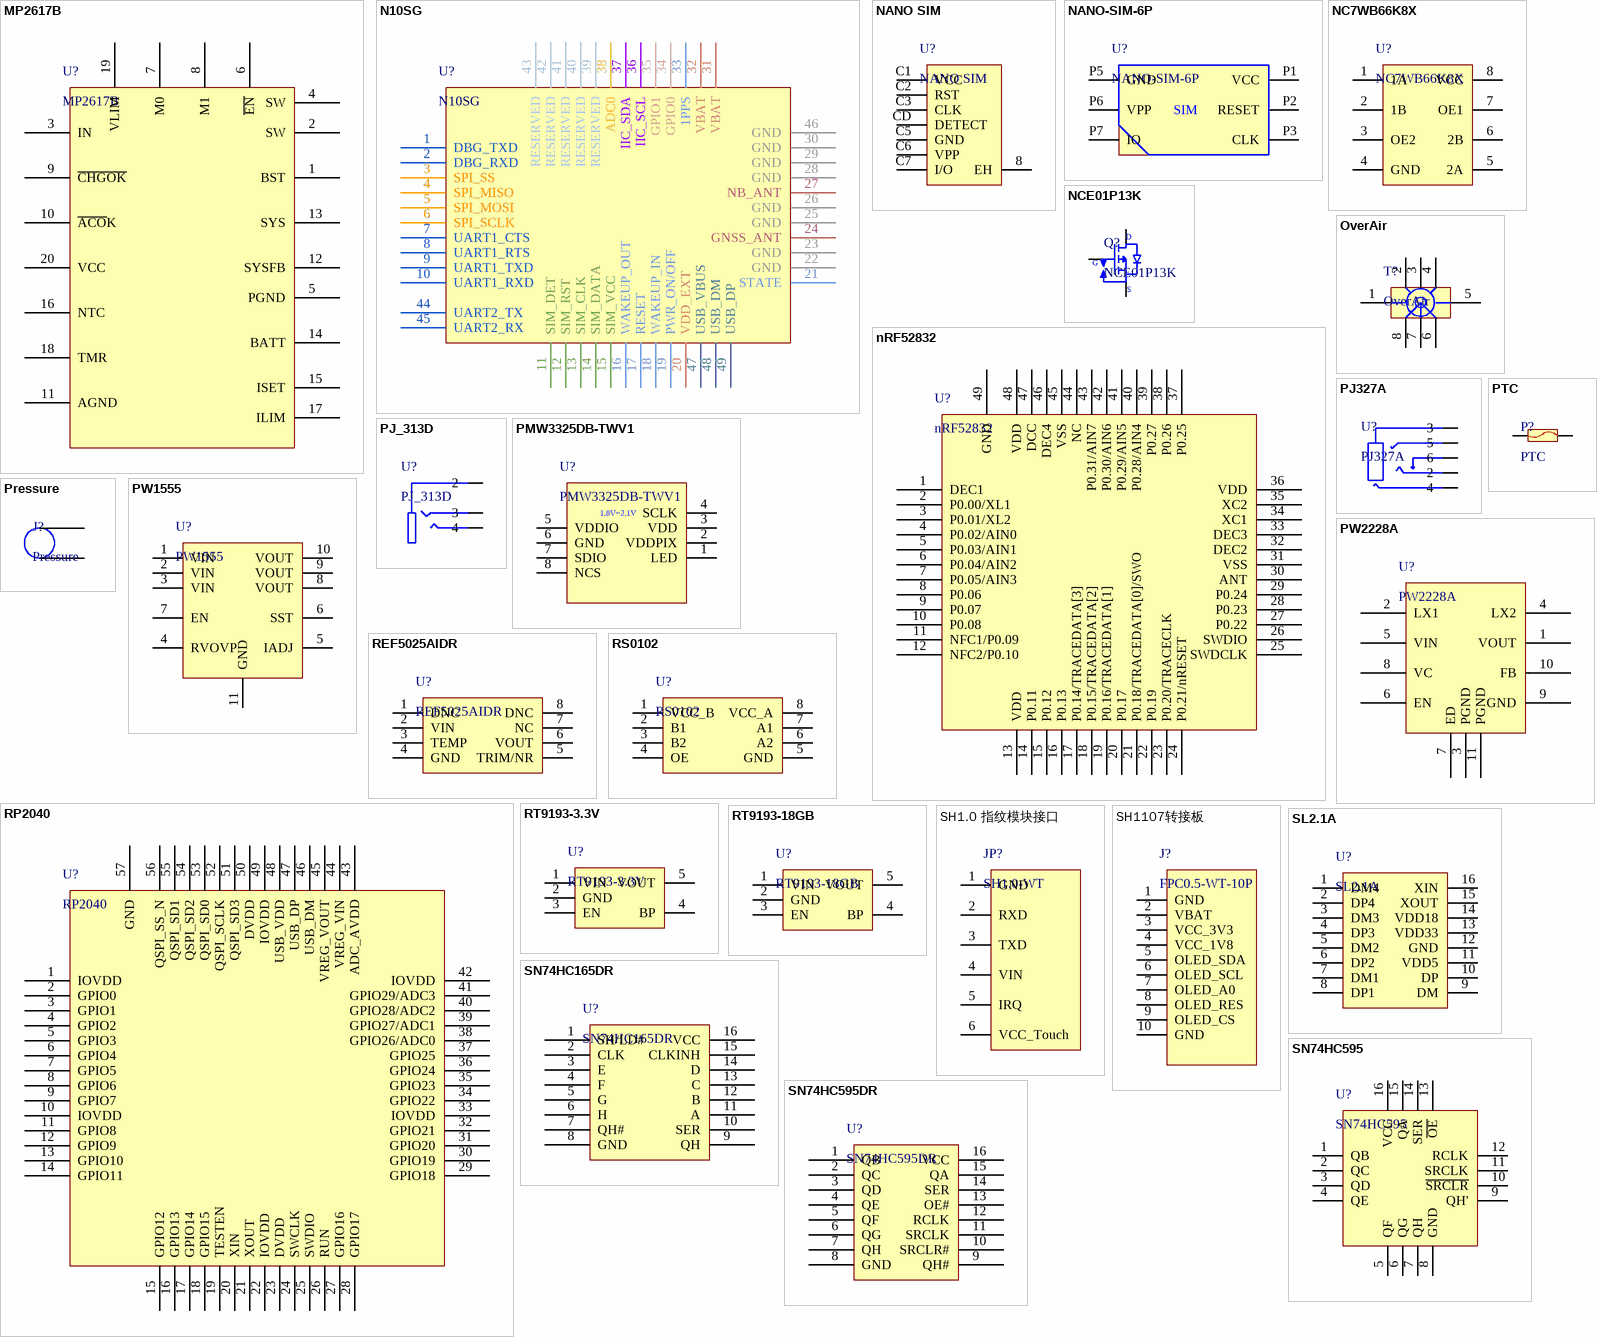
[diagram p4: symbols MP2617B to SN74HC595DR]

## MP2617B
designator U?
锂电池充电IC，电源路径管理
footprint QFN-20
pins: 1 BST, 2 SW, 3 IN, 4 SW, 5 PGND, 6 ~{EN}, 7 M0, 8 M1, 9 ~{CHGOK}, 10 ~{ACO}K, 11 AGND, 12 SYSFB, 13 SYS, 14 BATT, 15 ISET, 16 NTC, 17 ILIM, 18 TMR, 19 VLIM, 20 VCC

## N10SG
designator U?
中移NB-IOT,GNSS
footprint N10SG (NB-IOT  GNSS)
pins: 1 DBG_TXD, 2 DBG_RXD, 3 SPI_SS, 4 SPI_MISO, 5 SPI_MOSI, 6 SPI_SCLK, 7 UART1_CTS, 8 UART1_RTS, 9 UART1_TXD, 10 UART1_RXD, 11 SIM_DET, 12 SIM_RST, 13 SIM_CLK, 14 SIM_DATA, 15 SIM_VCC, 16 WAKEUP_OUT, 17 RESET, 18 WAKEUP_IN, 19 PWR_ON/OFF, 20 VDD_EXT, 21 STATE, 22 GND, 23 GND, 24 GNSS_ANT, 25 GND, 26 GND, 27 NB_ANT, 28 GND, 29 GND, 30 GND, 31 VBAT, 32 VBAT, 33 1PPS, 34 GPIO0, 35 GPIO1, 36 IIC_SCL, 37 IIC_SDA, 38 ADC0, 39 RESERVED, 40 RESERVED, 41 RESERVED, 42 RESERVED, 43 RESERVED, 44 UART2_TX, 45 UART2_RX, 46 GND, 47 USB_VBUS, 48 USB_DM, 49 USB_DP

## NANO SIM
designator U?
抽拉式NANO SIM卡座
footprint NANO SIM卡座 (抽拉式NANO SIM卡座)
pins: 8 EH, C1 VCC, C2 RST, C3 CLK, C5 GND, C6 VPP, C7 I/O, CD DETECT

## NANO-SIM-6P
designator U?
NANO-SIM 卡座-抽拉式-6P
footprint NANO-SIM-6P
pins: 0 GND, P1 VCC, P2 RESET, P3 CLK, P5 GND, P6 VPP, P7 IO
text: SIM

## NC7WB66K8X
designator U?
双通道单路模拟开关
footprint US-8
pins: 1 1A, 2 1B, 3 OE2, 4 GND, 5 2A, 6 2B, 7 OE1, 8 VCC

## NCE01P13K
designator Q?
P沟道MOS Vds=-100V,Id=-13A
footprint TO252-3 (D-PAK  / SOT-428  封装库来自淘宝卖家 ID：黄晶宝石)
pins: 1 G, 2 S, 3 D

## nRF52832
designator U?
蓝牙单片机
footprint QFN48-6*6
pins: 1 DEC1, 2 P0.00/XL1, 3 P0.01/XL2, 4 P0.02/AIN0, 5 P0.03/AIN1, 6 P0.04/AIN2, 7 P0.05/AIN3, 8 P0.06, 9 P0.07, 10 P0.08, 11 NFC1/P0.09, 12 NFC2/P0.10, 13 VDD, 14 P0.11, 15 P0.12, 16 P0.13, 17 P0.14/TRACEDATA[3], 18 P0.15/TRACEDATA[2], 19 P0.16/TRACEDATA[1], 20 P0.17, 21 P0.18/TRACEDATA[0]/SWO, 22 P0.19, 23 P0.20/TRACECLK, 24 P0.21/nRESET, 25 SWDCLK, 26 SWDIO, 27 P0.22, 28 P0.23, 29 P0.24, 30 ANT, 31 VSS, 32 DEC2, 33 DEC3, 34 XC1, 35 XC2, 36 VDD, 37 P0.25, 38 P0.26, 39 P0.27, 40 P0.28/AIN4, 41 P0.29/AIN5, 42 P0.30/AIN6, 43 P0.31/AIN7, 44 NC, 45 VSS, 46 DEC4, 47 DCC, 48 VDD, 49 GND

## OverAir
designator T?
天线
footprint OA-N01 (5G  4G  3G  2G  全网通天线)
pins: 1, 2, 3, 4, 5, 6, 7, 8

## PJ327A
designator U?
耳机插口
footprint PJ-327A (耳机插口)
pins: 2, 3, 4, 5, 6

## PJ_313D
designator U?
耳机插口
footprint PJ-313D (耳机接口)
pins: 2, 3, 4

## PMW3325DB-TWV1
designator U?
原相鼠标光感
footprint 8-Pin DIP
pins: 1 LED, 2 VDDPIX, 3 VDD, 4 SCLK, 5 VDDIO, 6 GND, 7 SDIO, 8 NCS
text: 1.8V~2.1V

## Pressure
designator J?
压感接口
footprint A1254WR-S-2P (长江连接器-卧式)
pins: 1, 2

## PTC
designator P?
自恢复保险丝
footprint 2920 (自恢复保险丝)
footprint 1206 (自恢复保险丝)
footprint FU 0603 (贴片保险丝)
pins: 1, 2

## PW1555
designator U?
VOVP  ILIM保护芯片
footprint DFN3x3-10
pins: 1 VIN, 2 VIN, 3 VIN, 4 RVOVP, 5 IADJ, 6 SST, 7 EN, 8 VOUT, 9 VOUT, 10 VOUT, 11 GND

## PW2228A
designator U?
Buck-Boost 升降压芯片
footprint TDFN3X3-10
pins: 1 VOUT, 2 LX1, 3 PGND, 4 LX2, 5 VIN, 6 EN, 7 ED, 8 VC, 9 GND, 10 FB, 11 PGND

## REF5025AIDR
designator U?
3uVpp/V噪声 3ppm/℃漂移 电压基准 0.05%
footprint SOIC-8L (封装库来自淘宝卖家 ID：黄晶宝石，其他均为盗版)
pins: 1 DNC, 2 VIN, 3 TEMP, 4 GND, 5 TRIM/NR, 6 VOUT, 7 NC, 8 DNC

## RP2040
designator U?
树莓派RP2040
pins: 1 IOVDD, 2 GPIO0, 3 GPIO1, 4 GPIO2, 5 GPIO3, 6 GPIO4, 7 GPIO5, 8 GPIO6, 9 GPIO7, 10 IOVDD, 11 GPIO8, 12 GPIO9, 13 GPIO10, 14 GPIO11, 15 GPIO12, 16 GPIO13, 17 GPIO14, 18 GPIO15, 19 TESTEN, 20 XIN, 21 XOUT, 22 IOVDD, 23 DVDD, 24 SWCLK, 25 SWDIO, 26 RUN, 27 GPIO16, 28 GPIO17, 29 GPIO18, 30 GPIO19, 31 GPIO20, 32 GPIO21, 33 IOVDD, 34 GPIO22, 35 GPIO23, 36 GPIO24, 37 GPIO25, 38 GPIO26/ADC0, 39 GPIO27/ADC1, 40 GPIO28/ADC2, 41 GPIO29/ADC3, 42 IOVDD, 43 ADC_AVDD, 44 VREG_VIN, 45 VREG_VOUT, 46 USB_DM, 47 USB_DP, 48 USB_VDD, 49 IOVDD, 50 DVDD, 51 QSPI_SD3, 52 QSPI_SCLK, 53 QSPI_SD0, 54 QSPI_SD2, 55 QSPI_SD1, 56 QSPI_SS_N, 57 GND

## RS0102
designator U?
两脚电平转换
footprint SOT23-8L (SOT23, 8-Leads, Body 2.9x1.75mm, Pitch 0.65mm)
footprint SOT23-8M (SOT23, 8-Leads, Body 2.9x1.75mm, Pitch 0.65mm)
footprint SOT23-8N (SOT23, 8-Leads, Body 2.9x1.75mm, Pitch 0.65mm.)
pins: 1 VCC_B, 2 B1, 3 B2, 4 OE, 5 GND, 6 A2, 7 A1, 8 VCC_A

## RT9193-3.3V
designator U?
3.3V_LDO
footprint SOT23-5L (SOT23, 5-Leads, Body 2.9x1.6mm, Pitch 0.95mm, IPC High Density)
pins: 1 VIN, 2 GND, 3 EN, 4 BP, 5 VOUT

## RT9193-18GB
designator U?
1.8V LDO
footprint SOT23-5L (SOT23, 5-Leads, Body 2.9x1.6mm, Pitch 0.95mm, IPC High Density)
pins: 1 VIN, 2 GND, 3 EN, 4 BP, 5 VOUT

## SH1.0 指纹模块接口
designator JP?, comment SH1.0-WT
SH1.0 指纹模块接口
footprint SH1.0-WT-6P (SH1.0连接器-卧贴-6P      来自淘宝卖家ID：黄晶宝石)
pins: 1 GND, 2 RXD, 3 TXD, 4 VIN, 5 IRQ, 6 VCC_Touch

## SH1107转接板
designator J?, comment FPC0.5-WT-10P
FPC_0.5mm
footprint FPC0.5-WT-10P (长：9.2mm，宽：5.2mm，高：2mm 淘宝ID:黄晶宝石   店铺网址:https://shop463601444.taobao.com)
pins: 1 GND, 2 VBAT, 3 VCC_3V3, 4 VCC_1V8, 5 OLED_SDA, 6 OLED_SCL, 7 OLED_A0, 8 OLED_RES, 9 OLED_CS, 10 GND

## SL2.1A
designator U?
USB2.0 HUB控制器
footprint SOP16 (封装库来自淘宝卖家 ID：黄晶宝石)
pins: 1 DM4, 2 DP4, 3 DM3, 4 DP3, 5 DM2, 6 DP2, 7 DM1, 8 DP1, 9 DM, 10 DP, 11 VDD5, 12 GND, 13 VDD33, 14 VDD18, 15 XOUT, 16 XIN

## SN74HC165DR
designator U?
并行转串行
footprint SOP-16
pins: 1 SH/LD#, 2 CLK, 3 E, 4 F, 5 G, 6 H, 7 QH#, 8 GND, 9 QH, 10 SER, 11 A, 12 B, 13 C, 14 D, 15 CLKINH, 16 VCC

## SN74HC595
designator U?
8位移位寄存器
footprint QFN-16 (SN74HC595B)
pins: 1 QB, 2 QC, 3 QD, 4 QE, 5 QF, 6 QG, 7 QH, 8 GND, 9 QH', 10 ~{SRCLR}, 11 SRCLK, 12 RCLK, 13 ~{OE}, 14 SER, 15 QA, 16 VCC

## SN74HC595DR
designator U?
串行转并行
footprint SOIC-16
pins: 1 QB, 2 QC, 3 QD, 4 QE, 5 QF, 6 QG, 7 QH, 8 GND, 9 QH#, 10 SRCLR#, 11 SRCLK, 12 RCLK, 13 OE#, 14 SER, 15 QA, 16 VCC

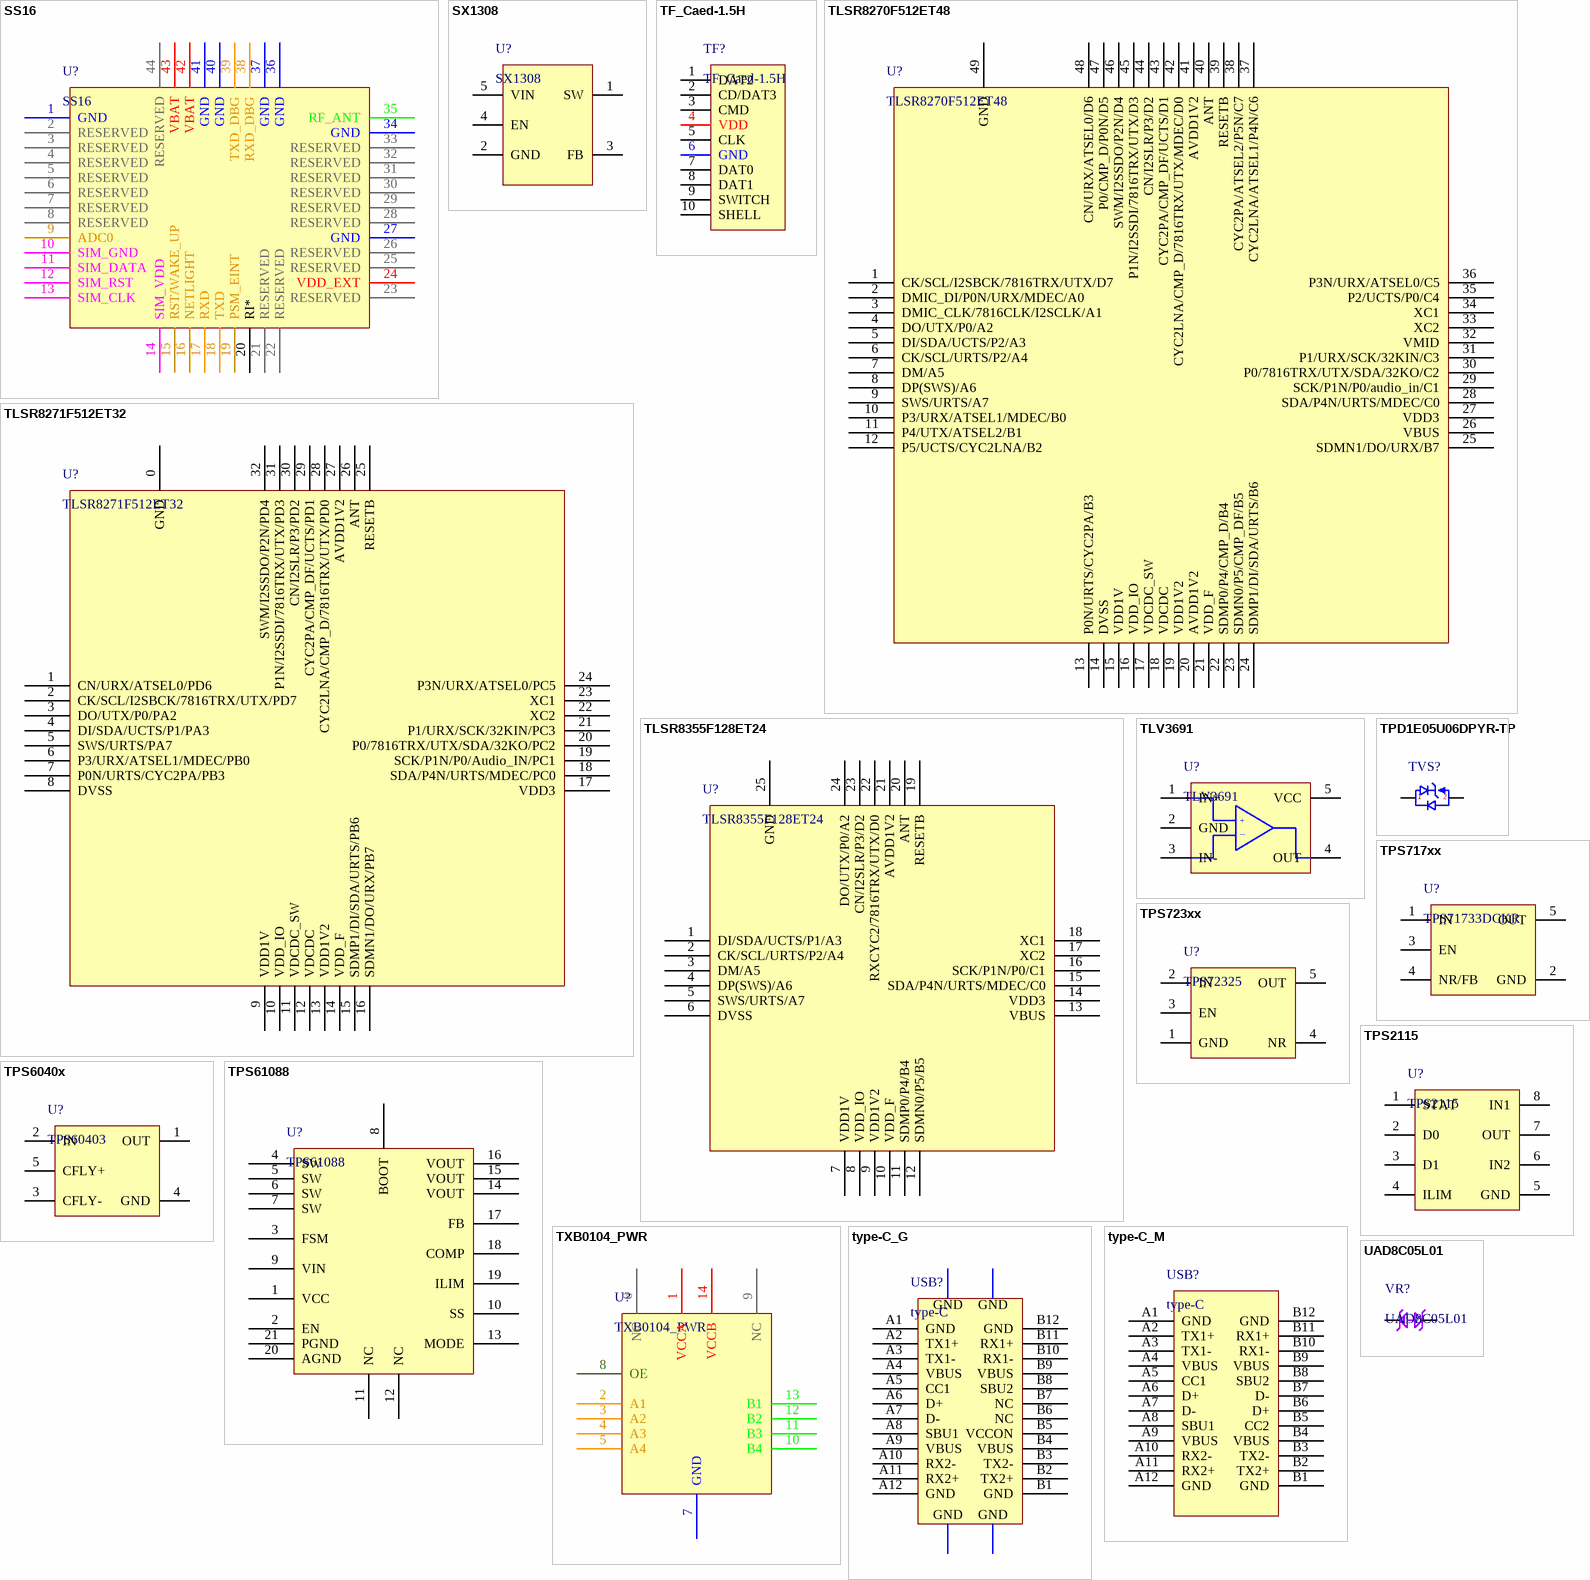
[diagram p5: symbols SS16 to UAD8C05L01]

## SS16
designator U?
天喻 NB-IOT
footprint SS16
pins: 1 GND, 2 RESERVED, 3 RESERVED, 4 RESERVED, 5 RESERVED, 6 RESERVED, 7 RESERVED, 8 RESERVED, 9 ADC0, 10 SIM_GND, 11 SIM_DATA, 12 SIM_RST, 13 SIM_CLK, 14 SIM_VDD, 15 RST/WAKE_UP, 16 NETLIGHT, 17 RXD, 18 TXD, 19 PSM_EINT, 20 RI*, 21 RESERVED, 22 RESERVED, 23 RESERVED, 24 VDD_EXT, 25 RESERVED, 26 RESERVED, 27 GND, 28 RESERVED, 29 RESERVED, 30 RESERVED, 31 RESERVED, 32 RESERVED, 33 RESERVED, 34 GND, 35 RF_ANT, 36 GND, 37 GND, 38 RXD_DBG, 39 TXD_DBG, 40 GND, 41 GND, 42 VBAT, 43 VBAT, 44 RESERVED

## SX1308
designator U?
Vin=2V~24V     Vout=28V
footprint SOT23-6L (SOT-23, 6-Leads, Body 2.90x1.60mm, Pitch 0.95mm, IPC High Density)
pins: 1 SW, 2 GND, 3 FB, 4 EN, 5 VIN

## TF_Caed-1.5H
designator TF?
TF简易短卡座9P中间边上带侦测脚
footprint TF_Card-1.5/1.7H (简易短体9P，带侦测引脚)
pins: 1 DAT2, 2 CD/DAT3, 3 CMD, 4 VDD, 5 CLK, 6 GND, 7 DAT0, 8 DAT1, 9 SWITCH, 10 SHELL

## TLSR8270F512ET48
designator U?
泰凌微
footprint QFN48 7X7_L (48脚，长x宽x高：7x7x1mm，脚距：0.5mm)
footprint QFN48 7X7_M (48脚，长x宽x高：7x7x1mm，脚距：0.5mm)
footprint QFN48 7X7_N (48脚，长x宽x高：7x7x1mm，脚距：0.5mm)
pins: 1 CK/SCL/I2SBCK/7816TRX/UTX/D7, 2 DMIC_DI/P0N/URX/MDEC/A0, 3 DMIC_CLK/7816CLK/I2SCLK/A1, 4 DO/UTX/P0/A2, 5 DI/SDA/UCTS/P2/A3, 6 CK/SCL/URTS/P2/A4, 7 DM/A5, 8 DP(SWS)/A6, 9 SWS/URTS/A7, 10 P3/URX/ATSEL1/MDEC/B0, 11 P4/UTX/ATSEL2/B1, 12 P5/UCTS/CYC2LNA/B2, 13 P0N/URTS/CYC2PA/B3, 14 DVSS, 15 VDD1V, 16 VDD_IO, 17 VDCDC_SW, 18 VDCDC, 19 VDD1V2, 20 AVDD1V2, 21 VDD_F, 22 SDMP0/P4/CMP_D/B4, 23 SDMN0/P5/CMP_DF/B5, 24 SDMP1/DI/SDA/URTS/B6, 25 SDMN1/DO/URX/B7, 26 VBUS, 27 VDD3, 28 SDA/P4N/URTS/MDEC/C0, 29 SCK/P1N/P0/audio_in/C1, 30 P0/7816TRX/UTX/SDA/32KO/C2, 31 P1/URX/SCK/32KIN/C3, 32 VMID, 33 XC2, 34 XC1, 35 P2/UCTS/P0/C4, 36 P3N/URX/ATSEL0/C5, 37 CYC2LNA/ATSEL1/P4N/C6, 38 CYC2PA/ATSEL2/P5N/C7, 39 RESETB, 40 ANT, 41 AVDD1V2, 42 CYC2LNA/CMP_D/7816TRX/UTX/MDEC/D0, 43 CYC2PA/CMP_DF/UCTS/D1, 44 CN/I2SLR/P3/D2, 45 P1N/I2SSDI/7816TRX/UTX/D3, 46 SWM/I2SSDO/P2N/D4, 47 P0/CMP_D/P0N/D5, 48 CN/URX/ATSEL0/D6, 49 GND

## TLSR8271F512ET32
designator U?
泰凌微
footprint QFN32 5x5_L (32脚，长x宽x高：5x5x0.95mm，脚距：0.5mm)
footprint QFN32 5x5_N (32脚，长x宽x高：5x5x0.95mm，脚距：0.5mm)
footprint QFN32 5x5_M (32脚，长x宽x高：5x5x0.95mm，脚距：0.5mm)
pins: 0 GND, 1 CN/URX/ATSEL0/PD6, 2 CK/SCL/I2SBCK/7816TRX/UTX/PD7, 3 DO/UTX/P0/PA2, 4 DI/SDA/UCTS/P1/PA3, 5 SWS/URTS/PA7, 6 P3/URX/ATSEL1/MDEC/PB0, 7 P0N/URTS/CYC2PA/PB3, 8 DVSS, 9 VDD1V, 10 VDD_IO, 11 VDCDC_SW, 12 VDCDC, 13 VDD1V2, 14 VDD_F, 15 SDMP1/DI/SDA/URTS/PB6, 16 SDMN1/DO/URX/PB7, 17 VDD3, 18 SDA/P4N/URTS/MDEC/PC0, 19 SCK/P1N/P0/Audio_IN/PC1, 20 P0/7816TRX/UTX/SDA/32KO/PC2, 21 P1/URX/SCK/32KIN/PC3, 22 XC2, 23 XC1, 24 P3N/URX/ATSEL0/PC5, 25 RESETB, 26 ANT, 27 AVDD1V2, 28 CYC2LNA/CMP_D/7816TRX/UTX/PD0, 29 CYC2PA/CMP_DF/UCTS/PD1, 30 CN/I2SLR/P3/PD2, 31 P1N/I2SSDI/7816TRX/UTX/PD3, 32 SWM/I2SSDO/P2N/PD4

## TLSR8355F128ET24
designator U?
泰凌微
footprint QFN24 4x4_N (24脚，长x宽x高：4x4x1mm，脚距：0.5mm)
pins: 1 DI/SDA/UCTS/P1/A3, 2 CK/SCL/URTS/P2/A4, 3 DM/A5, 4 DP(SWS)/A6, 5 SWS/URTS/A7, 6 DVSS, 7 VDD1V, 8 VDD_IO, 9 VDD1V2, 10 VDD_F, 11 SDMP0/P4/B4, 12 SDMN0/P5/B5, 13 VBUS, 14 VDD3, 15 SDA/P4N/URTS/MDEC/C0, 16 SCK/P1N/P0/C1, 17 XC2, 18 XC1, 19 RESETB, 20 ANT, 21 AVDD1V2, 22 RXCYC2/7816TRX/UTX/D0, 23 CN/I2SLR/P3/D2, 24 DO/UTX/P0/A2, 25 GND

## TLV3691
designator U?
毫微功耗比较器
footprint SC70-5
pins: 1 IN+, 2 GND, 3 IN-, 4 OUT, 5 VCC
text: +; _

## TPD1E05U06DPYR-TP
designator TVS?  (value not drawn)
TVS静电保护二级管 5V  0.35pF
footprint DFN1006-2
pins: 1, 2

## TPS717xx
designator U?, comment TPS71733DCKR
footprint SC70-5
pins: 1 IN, 2 GND, 3 EN, 4 NR/FB, 5 OUT

## TPS723xx
designator U?, comment TPS72325
footprint SOT23-5L (SOT23, 5-Leads, Body 2.9x1.6mm, Pitch 0.95mm, IPC High Density)
pins: 1 GND, 2 IN, 3 EN, 4 NR, 5 OUT

## TPS2115
designator U?
2.8~5.5V 84mR 1.25A 电源多路复用器
footprint TSSOP-8
pins: 1 STAT, 2 D0, 3 D1, 4 ILIM, 5 GND, 6 IN2, 7 OUT, 8 IN1

## TPS6040x
designator U?, comment TPS60403
非稳压60mA电荷泵电压逆变器
footprint SOT23-5L (SOT23, 5-Leads, Body 2.9x1.6mm, Pitch 0.95mm, IPC High Density)
pins: 1 OUT, 2 IN, 3 CFLY-, 4 GND, 5 CFLY+

## TPS61088
designator U?
10A 全集成同步升压转换器
footprint VQFN-20
pins: 1 VCC, 2 EN, 3 FSM, 4 SW, 5 SW, 6 SW, 7 SW, 8 BOOT, 9 VIN, 10 SS, 11 NC, 12 NC, 13 MODE, 14 VOUT, 15 VOUT, 16 VOUT, 17 FB, 18 COMP, 19 ILIM, 20 AGND, 21 PGND

## TXB0104_PWR
designator U?
footprint TSSOP14
pins: 1 VCCA, 2 A1, 3 A2, 4 A3, 5 A4, 6 NC, 7 GND, 8 OE, 9 NC, 10 B4, 11 B3, 12 B2, 13 B1, 14 VCCB

## type-C_G
designator USB?, comment type-C
type-C公头
footprint type-C_G (type-C公头)
pins: 0 GND, 0 GND, 0 GND, 0 GND, A1 GND, A2 TX1+, A3 TX1-, A4 VBUS, A5 CC1, A6 D+, A7 D-, A8 SBU1, A9 VBUS, A10 RX2-, A11 RX2+, A12 GND, B1 GND, B2 TX2+, B3 TX2-, B4 VBUS, B5 VCCON, B6 NC, B7 NC, B8 SBU2, B9 VBUS, B10 RX1-, B11 RX1+, B12 GND

## type-C_M
designator USB?, comment type-C
type-C母头
footprint type-C_M (type-C母头)
pins: A1 GND, A2 TX1+, A3 TX1-, A4 VBUS, A5 CC1, A6 D+, A7 D-, A8 SBU1, A9 VBUS, A10 RX2-, A11 RX2+, A12 GND, B1 GND, B2 TX2+, B3 TX2-, B4 VBUS, B5 CC2, B6 D+, B7 D-, B8 SBU2, B9 VBUS, B10 RX1-, B11 RX1+, B12 GND

## UAD8C05L01
designator VR?
footprint SOD882
pins: 1, 2

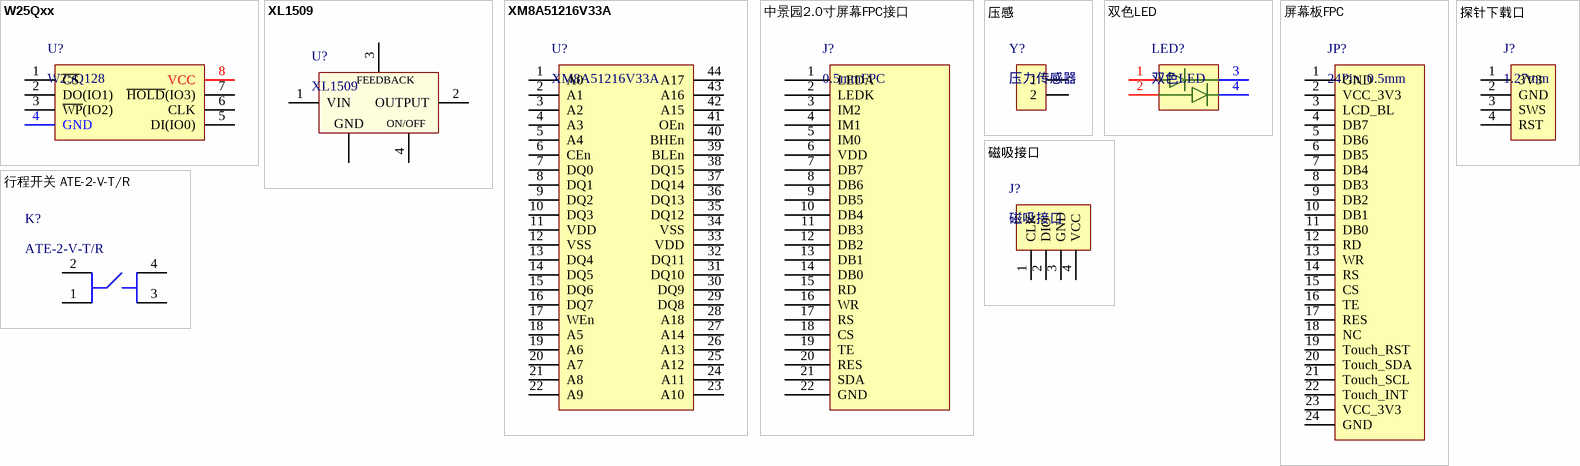
[diagram p6: symbols W25Qxx to 行程开关 ATE-2-V-T/R]

## W25Qxx
designator U?, comment W25Q128
SPI Flash
footprint WSON 6x5mm
pins: 1 ~{CS}, 2 DO(IO1), 3 ~{WP}(IO2), 4 GND, 5 DI(IO0), 6 CLK, 7 ~{HOLD}(IO3), 8 VCC

## XL1509
designator U?
DC-DC 电源芯片
footprint SOIC-8L (封装库来自淘宝卖家 ID：黄晶宝石，其他均为盗版)
pins: 1 VIN, 2 OUTPUT, 3 FEEDBACK, 4 ON/OFF, 5 GND, 6 GND, 7 GND, 8 GND

## XM8A51216V33A
designator U?
8Mb SRAM 10ns/12ns/15ns
footprint TSOP II(44Pin)
pins: 1 A0, 2 A1, 3 A2, 4 A3, 5 A4, 6 CEn, 7 DQ0, 8 DQ1, 9 DQ2, 10 DQ3, 11 VDD, 12 VSS, 13 DQ4, 14 DQ5, 15 DQ6, 16 DQ7, 17 WEn, 18 A5, 19 A6, 20 A7, 21 A8, 22 A9, 23 A10, 24 A11, 25 A12, 26 A13, 27 A14, 28 A18, 29 DQ8, 30 DQ9, 31 DQ10, 32 DQ11, 33 VDD, 34 VSS, 35 DQ12, 36 DQ13, 37 DQ14, 38 DQ15, 39 BLEn, 40 BHEn, 41 OEn, 42 A15, 43 A16, 44 A17

## 中景园2.0寸屏幕FPC接口
designator J?, comment 0.5mmFPC
footprint FPC0.5-WT-22P (长：15.2mm，宽：5.2mm，高：2mm 淘宝ID:黄晶宝石   店铺网址:https://shop463601444.taobao.com)
pins: 1 LEDA, 2 LEDK, 3 IM2, 4 IM1, 5 IM0, 6 VDD, 7 DB7, 8 DB6, 9 DB5, 10 DB4, 11 DB3, 12 DB2, 13 DB1, 14 DB0, 15 RD, 16 WR, 17 RS, 18 CS, 19 TE, 20 RES, 21 SDA, 22 GND

## 压感
designator Y?, comment 压力传感器
footprint 压感 (压力传感器)
pins: 1, 2

## 双色LED
designator LED?
footprint 0603(1615) 蓝翠绿双色LED
pins: 1, 2, 3, 4

## 屏幕板FPC
designator JP?, comment 24Pin_0.5mm
屏幕板外接座
footprint FPC0.5-WT-24P (长：16.2mm，宽：5.2mm，高：2mm 淘宝ID:黄晶宝石   店铺网址:https://shop463601444.taobao.com)
pins: 1 GND, 2 VCC_3V3, 3 LCD_BL, 4 DB7, 5 DB6, 6 DB5, 7 DB4, 8 DB3, 9 DB2, 10 DB1, 11 DB0, 12 RD, 13 WR, 14 RS, 15 CS, 16 TE, 17 RES, 18 NC, 19 Touch_RST, 20 Touch_SDA, 21 Touch_SCL, 22 Touch_INT, 23 VCC_3V3, 24 GND

## 探针下载口
designator J?, comment 1.27mm
footprint 下载测试点
pins: 1 3V3, 2 GND, 3 SWS, 4 RST

## 磁吸接口
designator J?
footprint 磁吸接口 (4Pin 磁吸接口)
pins: 1 CLK, 2 DIO, 3 GND, 4 VCC

## 行程开关 ATE-2-V-T/R
designator K?, comment ATE-2-V-T/R
行程开关
footprint ATE-2-V-T/R     行程开关 (行程开关)
pins: 1, 2, 3, 4